# Altium footprint library CNY65B.PcbLib: 1 footprints
Each footprint in its own frame and in the unit in brackets; x right, y up, seen from the top. Pads: shape width x height; smd on the part's side, far side on the other; paste and mask are expansions set on the pad; w line width, h text height; cw(c..) or ccw(c..) is an arc to the next point about the centre after c.
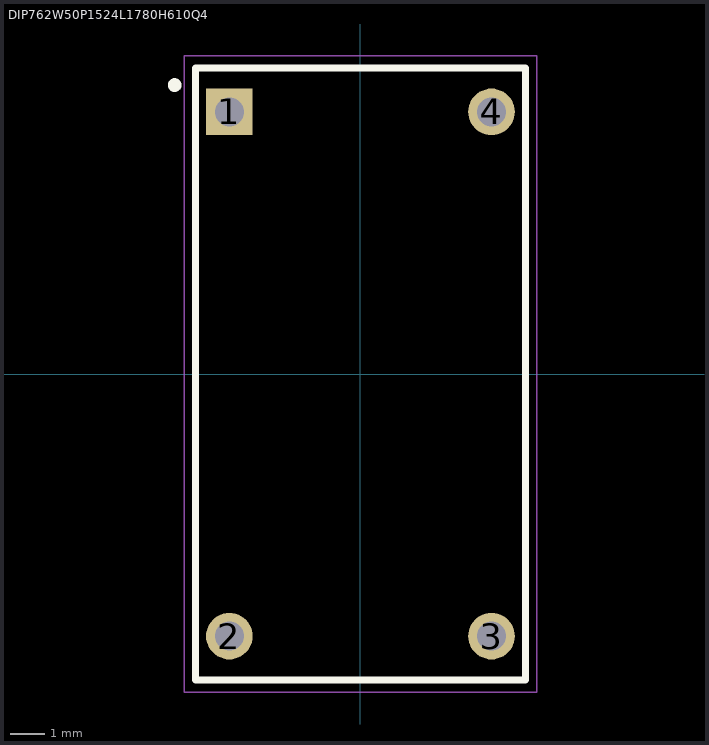
[diagram p0: the footprint, top view; thin cyan lines are the x and y axes]

## DIP762W50P1524L1780H610Q4 [mm]
pads (4):
  rect 1.358x1.358 hole 0.85: 1(-3.81,7.62)
  round 1.358 hole 0.85: 2(-3.81,-7.62) 3(3.81,-7.62) 4(3.81,7.62)
Top Overlay:
  circle w0.2: c-5.4,8.4 r0.1
  lines w0.2: -4.8,-8.9 -4.8,8.9 4.8,8.9 4.8,-8.9 -4.8,-8.9
Mechanical 15:
  lines w0.05: -5.125,-9.25 -5.125,9.25 5.125,9.25 5.125,-9.25 -5.125,-9.25